# Altium schematic symbol library RAM.SchLib: 6 symbols
Pins are listed as number, name and electrical type; pins without a type are passive.

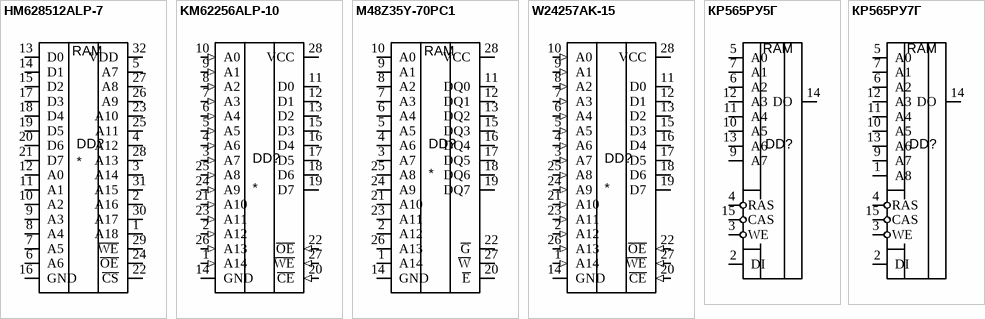
[diagram p0: symbols HM628512ALP-7 to КР565РУ7Г]

## HM628512ALP-7
designator DD?
512Kx8 Static RAM
footprint DIP254P1524X482-32
pins: 1 A18, 2 A16, 3 A14, 4 A12, 5 A7, 6 A6, 7 A5, 8 A4, 9 A3, 10 A2, 11 A1, 12 A0, 13 D0, 14 D1, 15 D2, 16 GND, 17 D3, 18 D4, 19 D5, 20 D6, 21 D7, 22 ~{CS}, 23 A10, 24 ~{OE}, 25 A11, 26 A9, 27 A8, 28 A13, 29 ~{WE}, 30 A17, 31 A15, 32 VDD
text: RAM

## KM62256ALP-10
designator DD?
32Kx8 Static RAM; MF: BRADY; MP: 62256; SnapEDA_Link: https://www.snapeda.com/parts/62256/Brady/view-part/?ref=snap; Package: None; Value: *; Check_prices: https://www.snapeda.com/parts/62256/Brady/view-part/?ref=eda
footprint DIP28
footprint DIP28x2
pins: 1 A14 (in), 2 A12 (in), 3 A7 (in), 4 A6 (in), 5 A5 (in), 6 A4 (in), 7 A3 (in), 8 A2 (in), 9 A1 (in), 10 A0 (in), 11 D0 (io), 12 D1 (io), 13 D2 (io), 14 GND (power), 15 D3 (io), 16 D4 (io), 17 D5 (io), 18 D6 (io), 19 D7 (io), 20 ~{CE} (in), 21 A10 (in), 22 ~{OE} (in), 23 A11 (in), 24 A9 (in), 25 A8 (in), 26 A13 (in), 27 ~{WE} (in), 28 VCC (power)

## M48Z35Y-70PC1
designator DD?
NVSRAM (Non-Volatile SRAM) Memory IC 256Kb (32K x 8) Parallel 70ns 28-PCDIP, CAPHATÂ®; MP: M48Z35Y-70PC1; MF: STMicroelectronics; Package: DIP-28 STMicroelectronics; SnapEDA_Link: https://www.snapeda.com/parts/M48Z35Y-70PC1/STMicroelectronics/view-part/44967/?ref=snap; Availability: Warning; Price: None; Value: *; Purchase-URL: https://pricing.snapeda.com/search/part/M48Z35Y-70PC1/?ref=eda
footprint DIP254P1524X965-28
pins: 1 A14, 2 A12, 3 A7, 4 A6, 5 A5, 6 A4, 7 A3, 8 A2, 9 A1, 10 A0, 11 DQ0, 12 DQ1, 13 DQ2, 14 GND, 15 DQ3, 16 DQ4, 17 DQ5, 18 DQ6, 19 DQ7, 20 ~{E}, 21 A10, 22 ~{G}, 23 A11, 24 A9, 25 A8, 26 A13, 27 ~{W}, 28 VCC
text: RAM

## W24257AK-15
designator DD?
32Kx8 Fast Static RAM; Value: *
footprint DIP28_300mil_socket
pins: 1 A14 (in), 2 A12 (in), 3 A7 (in), 4 A6 (in), 5 A5 (in), 6 A4 (in), 7 A3 (in), 8 A2 (in), 9 A1 (in), 10 A0 (in), 11 D0 (io), 12 D1 (io), 13 D2 (io), 14 GND (power), 15 D3 (io), 16 D4 (io), 17 D5 (io), 18 D6 (io), 19 D7 (io), 20 ~{CE} (in), 21 A10 (in), 22 ~{OE} (in), 23 A11 (in), 24 A9 (in), 25 A8 (in), 26 A13 (in), 27 ~{WE} (in), 28 VCC (power)

## КР565РУ5Г
designator DD?  (value not drawn)
footprint DIP16
pins: 2 DI, 3 WE, 4 RAS, 5 A0, 6 A2, 7 A1, 8 VCC hidden, 9 A7, 10 A5, 11 A4, 12 A3, 13 A6, 14 DO, 15 CAS, 16 GND hidden
text: RAM

## КР565РУ7Г
designator DD?  (value not drawn)
footprint DIP16
pins: 1 A8, 2 DI, 3 WE, 4 RAS, 5 A0, 6 A2, 7 A1, 8 VCC hidden, 9 A7, 10 A5, 11 A4, 12 A3, 13 A6, 14 DO, 15 CAS, 16 GND hidden
text: RAM